# Altium footprint library SSOP-28_G.PcbLib: 1 footprints
Each footprint in its own frame and in the unit in brackets; x right, y up, seen from the top. Pads: shape width x height; smd on the part's side, far side on the other; paste and mask are expansions set on the pad; w line width, h text height; cw(c..) or ccw(c..) is an arc to the next point about the centre after c.
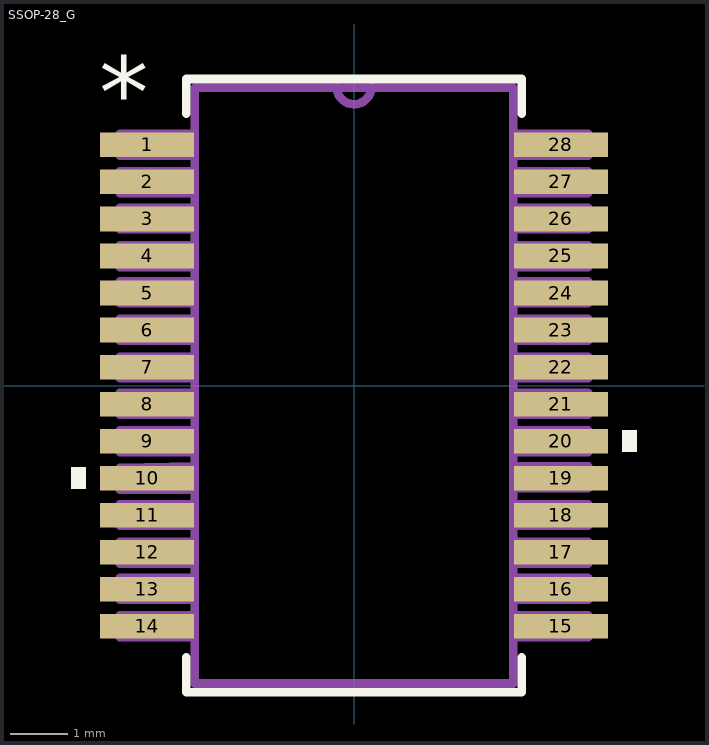
[diagram p0: the footprint, top view; thin cyan lines are the x and y axes]

## SSOP-28_G [mil]
pads (28):
  rect 65x17 smd: 1(-143,166.4) 2(-143,140.8) 3(-143,115.2) 4(-143,89.6) 5(-143,64) 6(-143,38.4) 7(-143,12.8) 8(-143,-12.8) 9(-143,-38.4) 10(-143,-64) 11(-143,-89.6) 12(-143,-115.2) 13(-143,-140.8) 14(-143,-166.4) 15(143,-166.4) 16(143,-140.8) 17(143,-115.2) 18(143,-89.6) 19(143,-64) 20(143,-38.4) 21(143,-12.8) 22(143,12.8) 23(143,38.4) 24(143,64) 25(143,89.6) 26(143,115.2) 27(143,140.8) 28(143,166.4)
Top Overlay:
  region: 195.5,-45.9 185.5,-45.9 185.5,-30.9 195.5,-30.9
  region: -185.5,-71.5 -195.5,-71.5 -195.5,-56.5 -185.5,-56.5
  lines w6: -116,-188 -116,-212 116,-212 116,-188 ; -116,188 -116,212 116,212 116,188
  text "*" at -176,178 h50
Mechanical 13:
  lines w6: -12,206.08 ccw(c0,206.5) 12,206.92 ; -162,-174 -110,-174 -110,-159 -162,-159 -162,-174 ; -162,-148 -110,-148 -110,-133 -162,-133 -162,-148 ; -162,-123 -110,-123 -110,-108 -162,-108 -162,-123 ; -162,-97 -110,-97 -110,-82 -162,-82 -162,-97 ; -162,-72 -110,-72 -110,-56 -162,-57 -162,-72 ; -162,-46 -110,-46 -110,-31 -162,-31 -162,-46 ; -162,-20 -110,-20 -110,-5 -162,-5 -162,-20 ; -162,5 -110,5 -110,20 -162,20 -162,5 ; -162,31 -110,31 -110,46 -162,46 -162,31 ; -162,57 -110,57 -110,72 -162,72 -162,57 ; -162,82 -110,82 -110,97 -162,97 -162,82 ; -162,108 -110,108 -110,123 -162,123 -162,108 ; -162,133 -110,133 -110,148 -162,148 -162,133 ; -162,159 -110,159 -110,174 -162,174 -162,159 ; -110,-206 -110,206 -12,206 110,206 110,-206 -110,-206 ; 110,-174 162,-174 162,-159 110,-159 110,-174 ; 110,-148 162,-148 162,-133 110,-133 110,-148 ; 110,-123 162,-123 162,-108 110,-108 110,-123 ; 110,-97 162,-97 162,-82 110,-82 110,-97 ; 110,-71 162,-71 162,-56 110,-56 110,-71 ; 110,-46 162,-46 162,-31 110,-31 110,-46 ; 110,-20 162,-20 162,-5 110,-5 110,-20 ; 110,5 162,5 162,20 110,20 110,5 ; 110,31 162,31 162,46 110,46 110,31 ; 110,57 162,57 162,72 110,72 110,57 ; 110,82 162,82 162,97 110,97 110,82 ; 110,108 162,108 162,123 110,123 110,108 ; 110,133 162,133 162,148 110,148 110,133 ; 110,159 162,159 162,174 110,174 110,159
  text "*" at -118,154 h50